# Altium schematic symbol library Res_SMD.SchLib: 111 symbols
Pins are listed as number, name and electrical type; pins without a type are passive.

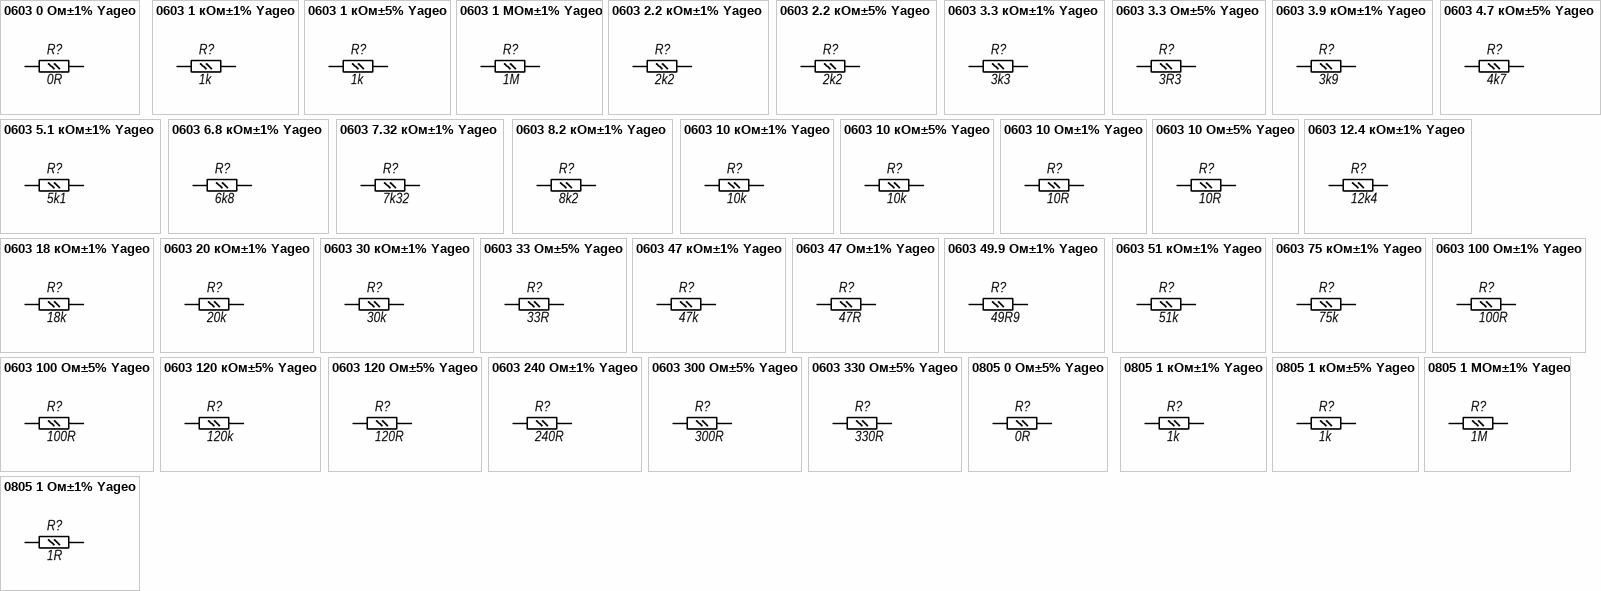
[diagram p0: symbols 0603 0 Ом±1% Yageo to 0805 1 Ом±1% Yageo]

## 0603 0 Ом±1% Yageo
designator R?, comment 0R
Partnumber: 0603 10 Ом±5% Yageo
footprint RES0603
pins: 1, 2

## 0603 1 кОм±1% Yageo
designator R?, comment 1k
Partnumber: =Identifier
footprint RES0603
pins: 1, 2

## 0603 1 кОм±5% Yageo
designator R?, comment 1k
Partnumber: =Identifier
footprint RES0603
pins: 1, 2

## 0603 1 МОм±1% Yageo
designator R?, comment 1M
Partnumber: =Identifier
footprint RES0603
pins: 1, 2

## 0603 2.2 кОм±1% Yageo
designator R?, comment 2k2
Partnumber: =Identifier
footprint RES0603
pins: 1, 2

## 0603 2.2 кОм±5% Yageo
designator R?, comment 2k2
Partnumber: =Identifier
footprint RES0603
pins: 1, 2

## 0603 3.3 кОм±1% Yageo
designator R?, comment 3k3
Partnumber: 0603 3.3 Ом±5% Yageo
footprint RES0603
pins: 1, 2

## 0603 3.3 Ом±5% Yageo
designator R?, comment 3R3
Partnumber: 0603 3.3 Ом±5% Yageo
footprint RES0603
pins: 1, 2

## 0603 3.9 кОм±1% Yageo
designator R?, comment 3k9
Partnumber: =Identifier
footprint RES0603
pins: 1, 2

## 0603 4.7 кОм±5% Yageo
designator R?, comment 4k7
Partnumber: =Identifier
footprint RES0603
pins: 1, 2

## 0603 5.1 кОм±1% Yageo
designator R?, comment 5k1
Partnumber: =Identifier
footprint RES0603
pins: 1, 2

## 0603 6.8 кОм±1% Yageo
designator R?, comment 6k8
Partnumber: =Identifier
footprint RES0603
pins: 1, 2

## 0603 7.32 кОм±1% Yageo
designator R?, comment 7k32
Partnumber: =Identifier
footprint RES0603
pins: 1, 2

## 0603 8.2 кОм±1% Yageo
designator R?, comment 8k2
Partnumber: =Identifier
footprint RES0603
pins: 1, 2

## 0603 10 кОм±1% Yageo
designator R?, comment 10k
Partnumber: =Identifier
footprint RES0603
pins: 1, 2

## 0603 10 кОм±5% Yageo
designator R?, comment 10k
Partnumber: =Identifier
footprint RES0603
pins: 1, 2

## 0603 10 Ом±1% Yageo
designator R?, comment 10R
Partnumber: 0603 10 Ом±5% Yageo
footprint RES0603
pins: 1, 2

## 0603 10 Ом±5% Yageo
designator R?, comment 10R
Partnumber: 0603 10 Ом±5% Yageo
footprint RES0603
pins: 1, 2

## 0603 12.4 кОм±1% Yageo
designator R?, comment 12k4
Partnumber: 0603 12.4 кОм±1% Yageo
footprint RES0603
pins: 1, 2

## 0603 18 кОм±1% Yageo
designator R?, comment 18k
Partnumber: =Identifier
footprint RES0603
pins: 1, 2

## 0603 20 кОм±1% Yageo
designator R?, comment 20k
Partnumber: =Identifier
footprint RES0603
pins: 1, 2

## 0603 30 кОм±1% Yageo
designator R?, comment 30k
Partnumber: =Identifier
footprint RES0603
pins: 1, 2

## 0603 33 Ом±5% Yageo
designator R?, comment 33R
Partnumber: 0603 33 Ом±5% Yageo
footprint RES0603
pins: 1, 2

## 0603 47 кОм±1% Yageo
designator R?, comment 47k
Partnumber: =Identifier
footprint RES0603
pins: 1, 2

## 0603 47 Ом±1% Yageo
designator R?, comment 47R
Partnumber: =Identifier
footprint RES0603
pins: 1, 2

## 0603 49.9 Ом±1% Yageo
designator R?, comment 49R9
Partnumber: 0603 49.9 Ом±1% Yageo
footprint RES0603
pins: 1, 2

## 0603 51 кОм±1% Yageo
designator R?, comment 51k
Partnumber: =Identifier
footprint RES0603
pins: 1, 2

## 0603 75 кОм±1% Yageo
designator R?, comment 75k
Partnumber: =Identifier
footprint RES0603
pins: 1, 2

## 0603 100 Ом±1% Yageo
designator R?, comment 100R
Partnumber: =Identifier
footprint RES0603
pins: 1, 2

## 0603 100 Ом±5% Yageo
designator R?, comment 100R
Partnumber: =Identifier
footprint RES0603
pins: 1, 2

## 0603 120 кОм±5% Yageo
designator R?, comment 120k
Partnumber: =Identifier
footprint RES0603
pins: 1, 2

## 0603 120 Ом±5% Yageo
designator R?, comment 120R
Partnumber: =Identifier
footprint RES0603
pins: 1, 2

## 0603 240 Ом±1% Yageo
designator R?, comment 240R
Partnumber: =Identifier
footprint RES0603
pins: 1, 2

## 0603 300 Ом±5% Yageo
designator R?, comment 300R
Partnumber: =Identifier
footprint RES0603
pins: 1, 2

## 0603 330 Ом±5% Yageo
designator R?, comment 330R
Partnumber: 0603 330 Ом±5% Yageo
footprint RES0603
pins: 1, 2

## 0805 0 Ом±5% Yageo
designator R?, comment 0R
Partnumber: 0805 0 Ом±5% Yageo
footprint RES0805
pins: 1, 2

## 0805 1 кОм±1% Yageo
designator R?, comment 1k
Partnumber: =Identifier
footprint RES0805
pins: 1, 2

## 0805 1 кОм±5% Yageo
designator R?, comment 1k
Partnumber: =Identifier
footprint RES0805
pins: 1, 2

## 0805 1 МОм±1% Yageo
designator R?, comment 1M
Partnumber: =Identifier
footprint RES0805
pins: 1, 2

## 0805 1 Ом±1% Yageo
designator R?, comment 1R
Partnumber: =Identifier
footprint RES0805
pins: 1, 2

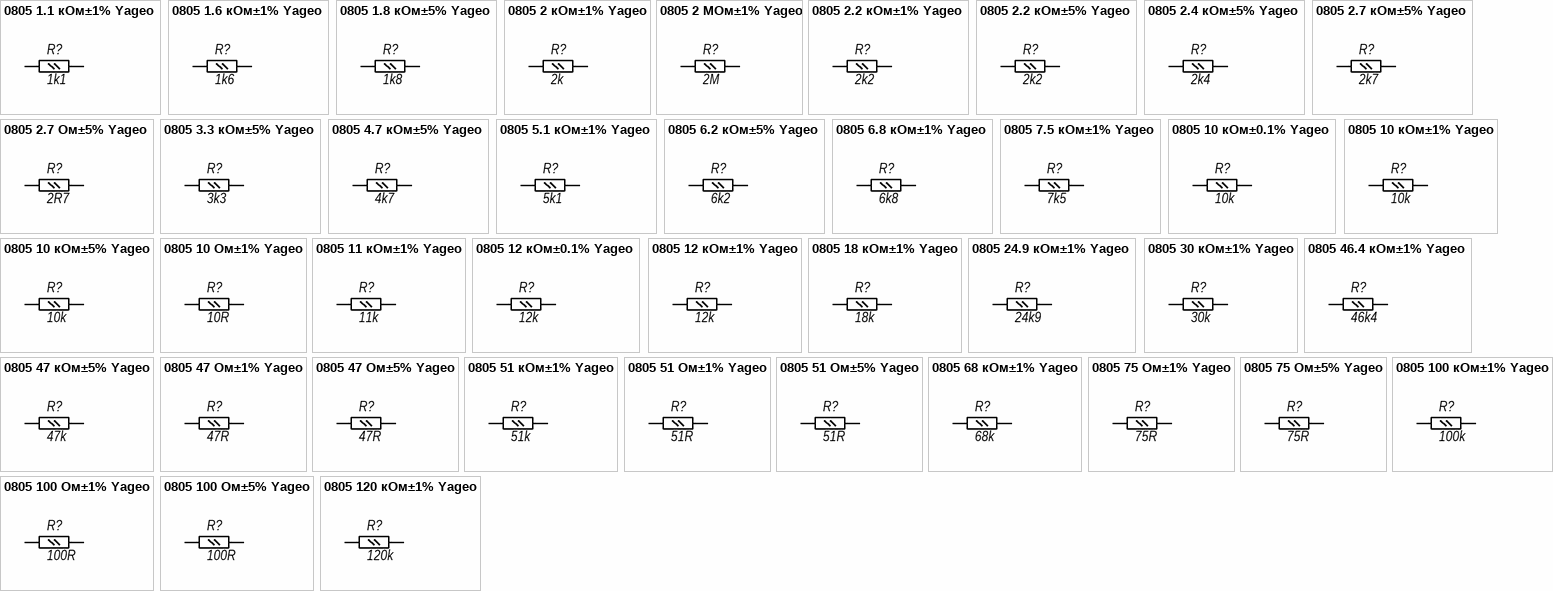
[diagram p1: symbols 0805 1.1 кОм±1% Yageo to 0805 120 кОм±1% Yageo]

## 0805 1.1 кОм±1% Yageo
designator R?, comment 1k1
Partnumber: =Identifier
footprint RES0805
pins: 1, 2

## 0805 1.6 кОм±1% Yageo
designator R?, comment 1k6
Partnumber: =Identifier
footprint RES0805
pins: 1, 2

## 0805 1.8 кОм±5% Yageo
designator R?, comment 1k8
Partnumber: =Identifier
footprint RES0805
pins: 1, 2

## 0805 2 кОм±1% Yageo
designator R?, comment 2k
Partnumber: =Identifier
footprint RES0805
pins: 1, 2

## 0805 2 МОм±1% Yageo
designator R?, comment 2M
Partnumber: =Identifier
footprint RES0805
pins: 1, 2

## 0805 2.2 кОм±1% Yageo
designator R?, comment 2k2
Partnumber: =Identifier
footprint RES0805
pins: 1, 2

## 0805 2.2 кОм±5% Yageo
designator R?, comment 2k2
Partnumber: =Identifier
footprint RES0805
pins: 1, 2

## 0805 2.4 кОм±5% Yageo
designator R?, comment 2k4
Partnumber: =Identifier
footprint RES0805
pins: 1, 2

## 0805 2.7 кОм±5% Yageo
designator R?, comment 2k7
Partnumber: =Identifier
footprint RES0805
pins: 1, 2

## 0805 2.7 Ом±5% Yageo
designator R?, comment 2R7
Partnumber: =Identifier
footprint RES0805
pins: 1, 2

## 0805 3.3 кОм±5% Yageo
designator R?, comment 3k3
Partnumber: =Identifier
footprint RES0805
pins: 1, 2

## 0805 4.7 кОм±5% Yageo
designator R?, comment 4k7
Partnumber: =Identifier
footprint RES0805
pins: 1, 2

## 0805 5.1 кОм±1% Yageo
designator R?, comment 5k1
Partnumber: =Identifier
footprint RES0805
pins: 1, 2

## 0805 6.2 кОм±5% Yageo
designator R?, comment 6k2
Partnumber: =Identifier
footprint RES0805
pins: 1, 2

## 0805 6.8 кОм±1% Yageo
designator R?, comment 6k8
Partnumber: =Identifier
footprint RES0805
pins: 1, 2

## 0805 7.5 кОм±1% Yageo
designator R?, comment 7k5
Partnumber: =Identifier
footprint RES0805
pins: 1, 2

## 0805 10 кОм±0.1% Yageo
designator R?, comment 10k
Partnumber: =Identifier
footprint RES0805
pins: 1, 2

## 0805 10 кОм±1% Yageo
designator R?, comment 10k
Partnumber: =Identifier
footprint RES0805
pins: 1, 2

## 0805 10 кОм±5% Yageo
designator R?, comment 10k
Partnumber: =Identifier
footprint RES0805
pins: 1, 2

## 0805 10 Ом±1% Yageo
designator R?, comment 10R
Partnumber: =Identifier
footprint RES0805
pins: 1, 2

## 0805 11 кОм±1% Yageo
designator R?, comment 11k
Partnumber: =Identifier
footprint RES0805
pins: 1, 2

## 0805 12 кОм±0.1% Yageo
designator R?, comment 12k
Partnumber: =Identifier
footprint RES0805
pins: 1, 2

## 0805 12 кОм±1% Yageo
designator R?, comment 12k
Partnumber: =Identifier
footprint RES0805
pins: 1, 2

## 0805 18 кОм±1% Yageo
designator R?, comment 18k
Partnumber: =Identifier
footprint RES0805
pins: 1, 2

## 0805 24.9 кОм±1% Yageo
designator R?, comment 24k9
Partnumber: =Identifier
footprint RES0805
pins: 1, 2

## 0805 30 кОм±1% Yageo
designator R?, comment 30k
Partnumber: 0805 330 Ом±5% Yageo
footprint RES0805
pins: 1, 2

## 0805 46.4 кОм±1% Yageo
designator R?, comment 46k4
Partnumber: =Identifier
footprint RES0805
pins: 1, 2

## 0805 47 кОм±5% Yageo
designator R?, comment 47k
Partnumber: =Identifier
footprint RES0805
pins: 1, 2

## 0805 47 Ом±1% Yageo
designator R?, comment 47R
Partnumber: =Identifier
footprint RES0805
pins: 1, 2

## 0805 47 Ом±5% Yageo
designator R?, comment 47R
Partnumber: =Identifier
footprint RES0805
pins: 1, 2

## 0805 51 кОм±1% Yageo
designator R?, comment 51k
Partnumber: =Identifier
footprint RES0805
pins: 1, 2

## 0805 51 Ом±1% Yageo
designator R?, comment 51R
Partnumber: =Identifier
footprint RES0805
pins: 1, 2

## 0805 51 Ом±5% Yageo
designator R?, comment 51R
Partnumber: =Identifier
footprint RES0805
pins: 1, 2

## 0805 68 кОм±1% Yageo
designator R?, comment 68k
Partnumber: =Identifier
footprint RES0805
pins: 1, 2

## 0805 75 Ом±1% Yageo
designator R?, comment 75R
Partnumber: 0805 75 Ом±5% Yageo
footprint RES0805
pins: 1, 2

## 0805 75 Ом±5% Yageo
designator R?, comment 75R
Partnumber: 0805 75 Ом±5% Yageo
footprint RES0805
pins: 1, 2

## 0805 100 кОм±1% Yageo
designator R?, comment 100k
Partnumber: =Identifier
footprint RES0805
pins: 1, 2

## 0805 100 Ом±1% Yageo
designator R?, comment 100R
Partnumber: =Identifier
footprint RES0805
pins: 1, 2

## 0805 100 Ом±5% Yageo
designator R?, comment 100R
Partnumber: =Identifier
footprint RES0805
pins: 1, 2

## 0805 120 кОм±1% Yageo
designator R?, comment 120k
Partnumber: =Identifier
footprint RES0805
pins: 1, 2

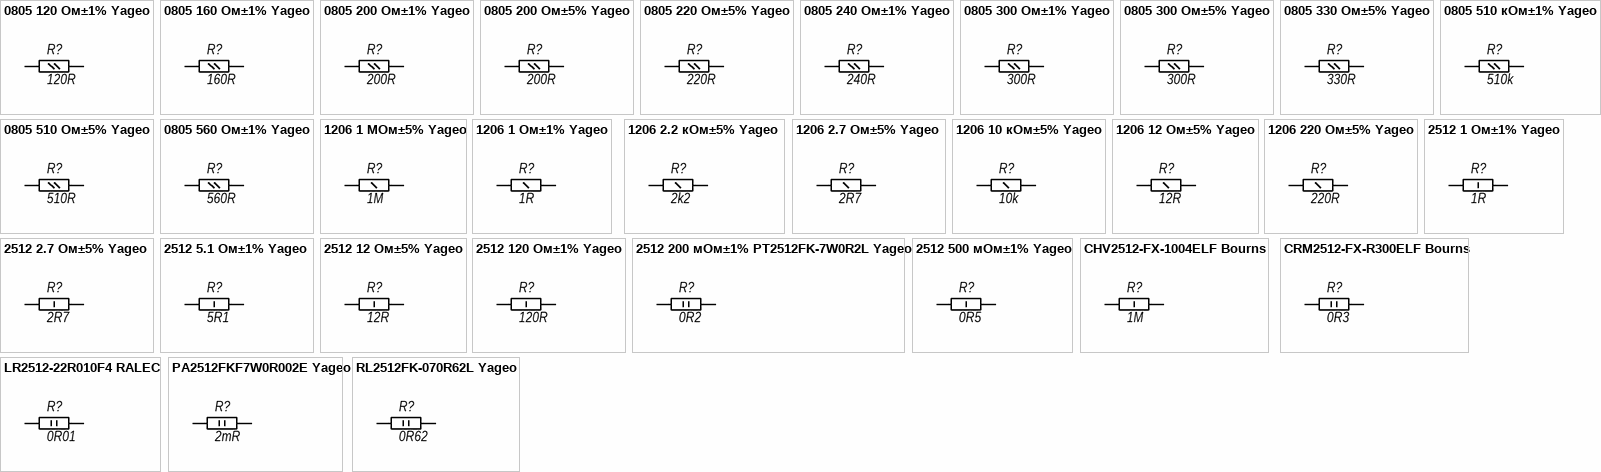
[diagram p2: symbols 0805 120 Ом±1% Yageo to RL2512FK-070R62L Yageo]

## 0805 120 Ом±1% Yageo
designator R?, comment 120R
Partnumber: =Identifier
footprint RES0805
pins: 1, 2

## 0805 160 Ом±1% Yageo
designator R?, comment 160R
Partnumber: =Identifier
footprint RES0805
pins: 1, 2

## 0805 200 Ом±1% Yageo
designator R?, comment 200R
Partnumber: =Identifier
footprint RES0805
pins: 1, 2

## 0805 200 Ом±5% Yageo
designator R?, comment 200R
Partnumber: =Identifier
footprint RES0805
pins: 1, 2

## 0805 220 Ом±5% Yageo
designator R?, comment 220R
Partnumber: =Identifier
footprint RES0805
pins: 1, 2

## 0805 240 Ом±1% Yageo
designator R?, comment 240R
Partnumber: =Identifier
footprint RES0805
pins: 1, 2

## 0805 300 Ом±1% Yageo
designator R?, comment 300R
Partnumber: =Identifier
footprint RES0805
pins: 1, 2

## 0805 300 Ом±5% Yageo
designator R?, comment 300R
Partnumber: =Identifier
footprint RES0805
pins: 1, 2

## 0805 330 Ом±5% Yageo
designator R?, comment 330R
Partnumber: 0805 330 Ом±5% Yageo
footprint RES0805
pins: 1, 2

## 0805 510 кОм±1% Yageo
designator R?, comment 510k
Partnumber: =Identifier
footprint RES0805
pins: 1, 2

## 0805 510 Ом±5% Yageo
designator R?, comment 510R
Partnumber: =Identifier
footprint RES0805
pins: 1, 2

## 0805 560 Ом±1% Yageo
designator R?, comment 560R
Partnumber: =Identifier
footprint RES0805
pins: 1, 2

## 1206 1 МОм±5% Yageo
designator R?, comment 1M
Partnumber: =Identifier
footprint RES1206
pins: 1, 2

## 1206 1 Ом±1% Yageo
designator R?, comment 1R
Partnumber: =Identifier
footprint RES1206
pins: 1, 2

## 1206 2.2 кОм±5% Yageo
designator R?, comment 2k2
Partnumber: =Identifier
footprint RES1206
pins: 1, 2

## 1206 2.7 Ом±5% Yageo
designator R?, comment 2R7
Partnumber: =Identifier
footprint RES1206
pins: 1, 2

## 1206 10 кОм±5% Yageo
designator R?, comment 10k
Partnumber: =Identifier
footprint RES1206
pins: 1, 2

## 1206 12 Ом±5% Yageo
designator R?, comment 12R
Partnumber: =Identifier
footprint RES1206
pins: 1, 2

## 1206 220 Ом±5% Yageo
designator R?, comment 220R
Partnumber: =Identifier
footprint RES1206
pins: 1, 2

## 2512 1 Ом±1% Yageo
designator R?, comment 1R
Partnumber: =Identifier
footprint RES2512
pins: 1, 2

## 2512 2.7 Ом±5% Yageo
designator R?, comment 2R7
Partnumber: =Identifier
footprint RES2512
pins: 1, 2

## 2512 5.1 Ом±1% Yageo
designator R?, comment 5R1
Partnumber: =Identifier
footprint RES2512
pins: 1, 2

## 2512 12 Ом±5% Yageo
designator R?, comment 12R
Partnumber: 2512 12 Ом±5% Yageo
footprint RES2512
pins: 1, 2

## 2512 120 Ом±1% Yageo
designator R?, comment 120R
Partnumber: =Identifier
footprint RES2512
pins: 1, 2

## 2512 200 мОм±1% PT2512FK-7W0R2L Yageo
designator R?, comment 0R2
Partnumber: =Identifier
footprint RES2512
pins: 1, 2

## 2512 500 мОм±1% Yageo
designator R?, comment 0R5
Partnumber: =Identifier
footprint RES2512
pins: 1, 2

## CHV2512-FX-1004ELF Bourns
designator R?, comment 1M
1МОм 1% 3кВ; Partnumber: CHV2512-FX-1004ELF Bourns
footprint RES2512
pins: 1, 2

## CRM2512-FX-R300ELF Bourns
designator R?, comment 0R3
Partnumber: =Identifier
footprint RES2512
pins: 1, 2

## LR2512-22R010F4 RALEC
designator R?, comment 0R01
SMD шунт 10мОм 2Вт; Partnumber: =Identifier
footprint RES2512
pins: 1, 2

## PA2512FKF7W0R002E Yageo
designator R?, comment 2mR
SMD шунт 2мОм 2Вт; Partnumber: =Identifier
footprint PA2512FKF7W0R002E
pins: 1, 2

## RL2512FK-070R62L Yageo
designator R?, comment 0R62
Partnumber: RL2512FK-070R62L Yageo
footprint RES2512
pins: 1, 2